# Altium footprint library DISCRETE_T1.PcbLib: 293 footprints (part 3 of 19)
Each footprint in its own frame and in the unit in brackets; x right, y up, seen from the top. Pads: shape width x height; smd on the part's side, far side on the other; paste and mask are expansions set on the pad; w line width, h text height; cw(c..) or ccw(c..) is an arc to the next point about the centre after c.
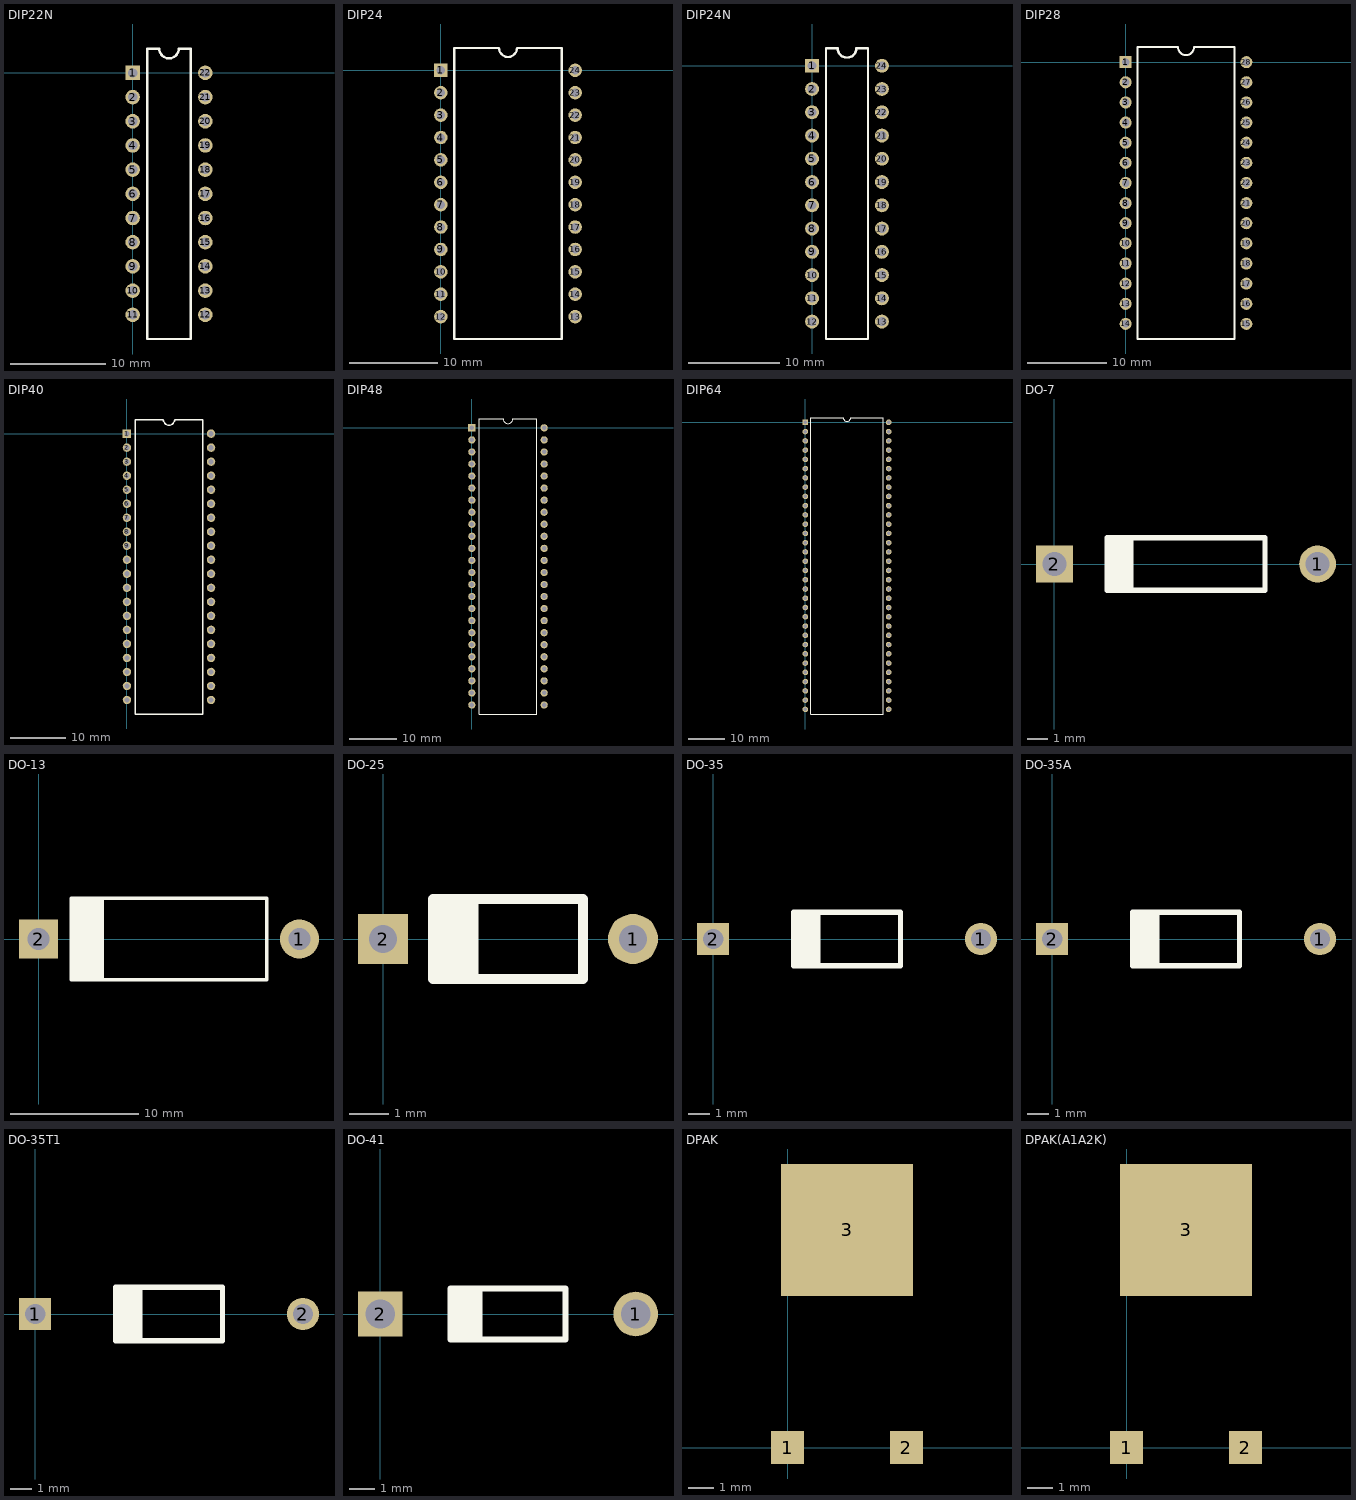
[diagram p2: the footprints below, top view; thin cyan lines are the x and y axes]

## DIP22N [mil]
pads (22):
  rect 60x60 hole 38: 1(0,0)
  round 60 hole 38: 2(0,-100) 3(0,-200) 4(0,-300) 5(0,-400) 6(0,-500) 7(0,-600) 8(0,-700) 9(0,-800) 10(0,-900) 11(0,-1000) 12(300,-1000) 13(300,-900) 14(300,-800) 15(300,-700) 16(300,-600) 17(300,-500) 18(300,-400) 19(300,-300) 20(300,-200) 21(300,-100) 22(300,0)
Top Overlay:
  lines w10: 60,-1100 60,100 110,100 ccw(c150,100) 190,100 240,100 240,-1100 60,-1100

## DIP24 [mil]
pads (24):
  rect 60x60 hole 38: 1(0,0)
  round 60 hole 38: 2(0,-100) 3(0,-200) 4(0,-300) 5(0,-400) 6(0,-500) 7(0,-600) 8(0,-700) 9(0,-800) 10(0,-900) 11(0,-1000) 12(0,-1100) 13(600,-1100) 14(600,-1000) 15(600,-900) 16(600,-800) 17(600,-700) 18(600,-600) 19(600,-500) 20(600,-400) 21(600,-300) 22(600,-200) 23(600,-100) 24(600,0)
Top Overlay:
  lines w10: 60,-1200 60,100 260,100 ccw(c300,100) 340,100 540,100 540,-1200 60,-1200

## DIP24N [mil]
pads (24):
  rect 60x60 hole 38: 1(0,0)
  round 60 hole 38: 2(0,-100) 3(0,-200) 4(0,-300) 5(0,-400) 6(0,-500) 7(0,-600) 8(0,-700) 9(0,-800) 10(0,-900) 11(0,-1000) 12(0,-1100) 13(300,-1100) 14(300,-1000) 15(300,-900) 16(300,-800) 17(300,-700) 18(300,-600) 19(300,-500) 20(300,-400) 21(300,-300) 22(300,-200) 23(300,-100) 24(300,0)
Top Overlay:
  lines w10: 60,-1175 60,75 110,75 ccw(c150,75) 190,75 240,75 240,-1175 60,-1175

## DIP28 [mil]
pads (28):
  rect 60x60 hole 38: 1(0,0)
  round 60 hole 38: 2(0,-100) 3(0,-200) 4(0,-300) 5(0,-400) 6(0,-500) 7(0,-600) 8(0,-700) 9(0,-800) 10(0,-900) 11(0,-1000) 12(0,-1100) 13(0,-1200) 14(0,-1300) 15(600,-1300) 16(600,-1200) 17(600,-1100) 18(600,-1000) 19(600,-900) 20(600,-800) 21(600,-700) 22(600,-600) 23(600,-500) 24(600,-400) 25(600,-300) 26(600,-200) 27(600,-100) 28(600,0)
Top Overlay:
  lines w10: 60,-1375 60,75 260,75 ccw(c300,75) 340,75 540,75 540,-1375 60,-1375

## DIP40 [mil]
pads (40):
  rect 60x60 hole 38: 1(0,0)
  round 60 hole 38: 2(0,-100) 3(0,-200) 4(0,-300) 5(0,-400) 6(0,-500) 7(0,-600) 8(0,-700) 9(0,-800) 10(0,-900) 11(0,-1000) 12(0,-1100) 13(0,-1200) 14(0,-1300) 15(0,-1400) 16(0,-1500) 17(0,-1600) 18(0,-1700) 19(0,-1800) 20(0,-1900) 21(600,-1900) 22(600,-1800) 23(600,-1700) 24(600,-1600) 25(600,-1500) 26(600,-1400) 27(600,-1300) 28(600,-1200) 29(600,-1100) 30(600,-1000) 31(600,-900) 32(600,-800) 33(600,-700) 34(600,-600) 35(600,-500) 36(600,-400) 37(600,-300) 38(600,-200) 39(600,-100) 40(600,0)
Top Overlay:
  lines w10: 60,-2000 60,100 260,100 ccw(c300,100) 340,100 540,100 540,-2000 60,-2000

## DIP48 [mil]
pads (48):
  rect 60x60 hole 38: 1(0,0)
  round 60 hole 38: 2(0,-100) 3(0,-200) 4(0,-300) 5(0,-400) 6(0,-500) 7(0,-600) 8(0,-700) 9(0,-800) 10(0,-900) 11(0,-1000) 12(0,-1100) 13(0,-1200) 14(0,-1300) 15(0,-1400) 16(0,-1500) 17(0,-1600) 18(0,-1700) 19(0,-1800) 20(0,-1900) 21(0,-2000) 22(0,-2100) 23(0,-2200) 24(0,-2300) 25(600,-2300) 26(600,-2200) 27(600,-2100) 28(600,-2000) 29(600,-1900) 30(600,-1800) 31(600,-1700) 32(600,-1600) 33(600,-1500) 34(600,-1400) 35(600,-1300) 36(600,-1200) 37(600,-1100) 38(600,-1000) 39(600,-900) 40(600,-800) 41(600,-700) 42(600,-600) 43(600,-500) 44(600,-400) 45(600,-300) 46(600,-200) 47(600,-100) 48(600,0)
Top Overlay:
  lines w10: 60,-2375 60,75 260,75 ccw(c300,75) 340,75 540,75 540,-2375 60,-2375

## DIP64 [mil]
pads (64):
  rect 60x60 hole 38: 1(0,0)
  round 60 hole 38: 2(0,-100) 3(0,-200) 4(0,-300) 5(0,-400) 6(0,-500) 7(0,-600) 8(0,-700) 9(0,-800) 10(0,-900) 11(0,-1000) 12(0,-1100) 13(0,-1200) 14(0,-1300) 15(0,-1400) 16(0,-1500) 17(0,-1600) 18(0,-1700) 19(0,-1800) 20(0,-1900) 21(0,-2000) 22(0,-2100) 23(0,-2200) 24(0,-2300) 25(0,-2400) 26(0,-2500) 27(0,-2600) 28(0,-2700) 29(0,-2800) 30(0,-2900) 31(0,-3000) 32(0,-3100) 33(900,-3100) 34(900,-3000) 35(900,-2900) 36(900,-2800) 37(900,-2700) 38(900,-2600) 39(900,-2500) 40(900,-2400) 41(900,-2300) 42(900,-2200) 43(900,-2100) 44(900,-2000) 45(900,-1900) 46(900,-1800) 47(900,-1700) 48(900,-1600) 49(900,-1500) 50(900,-1400) 51(900,-1300) 52(900,-1200) 53(900,-1100) 54(900,-1000) 55(900,-900) 56(900,-800) 57(900,-700) 58(900,-600) 59(900,-500) 60(900,-400) 61(900,-300) 62(900,-200) 63(900,-100) 64(900,0)
Top Overlay:
  lines w10: 830,-3150 60,-3150 ; 60,-3150 60,50 410,50 ccw(c450,50) 490,50 840,50 840,-3150 60,-3150

## DO-7 [mil]
pads (2):
  round 70 hole 46: 1(500,0)
  rect 70x70 hole 46: 2(0,0)
Top Overlay:
  region: 100,-50 150,-50 150,50 100,50
  lines w10: 100,-50 100,50 400,50 400,-50 100,-50

## DO-13 [mil]
pads (2):
  round 120 hole 68: 1(800,0)
  rect 120x120 hole 68: 2(0,0)
Top Overlay:
  region: 100,-125 200,-125 200,125 100,125
  region: 100,-125 175,-125
  lines w10: 100,-125 700,-125 700,125 100,125 100,-125

## DO-25 [mil]
pads (2):
  round 50 hole 28: 1(250,0)
  rect 50x50 hole 28: 2(0,0)
Top Overlay:
  region: 95,-40 95,40 50,40 50,-40
  lines w10: 50,-40 50,40 200,40 200,-40 50,-40

## DO-35 [mil]
pads (2):
  round 60 hole 38: 1(500,0)
  rect 60x60 hole 38: 2(0,0)
Top Overlay:
  region: 150,-50 175,-50
  region: 150,-50 200,-50 200,50 150,50
  lines w10: 150,-50 350,-50 350,50 150,50 150,-50

## DO-35A [mil]
pads (2):
  round 60 hole 38: 1(500,0)
  rect 60x60 hole 38: 2(0,0)
Top Overlay:
  region: 150,-50 200,-50 200,50 150,50
  region: 150,-50 175,-50
  lines w10: 150,-50 150,50 350,50 350,-50 150,-50

## DO-35T1 [mil]
pads (2):
  rect 60x60 hole 38: 1(0,0)
  round 60 hole 38: 2(500,0)
Top Overlay:
  region: 150,-50 175,-50
  region: 150,-50 200,-50 200,50 150,50
  lines w10: 150,-50 350,-50 350,50 150,50 150,-50

## DO-41 [mil]
pads (2):
  round 70 hole 46: 1(400,0)
  rect 70x70 hole 46: 2(0,0)
Top Overlay:
  region: 110,-40 160,-40
  region: 110,-40 160,-40 160,40 110,40
  lines w10: 110,-40 290,-40 290,40 110,40 110,-40

## DPAK [mil]
pads (3):
  rect 50x50 smd: 1(0,0) 2(180,0)
  rect 200x200 smd: 3(90,330)

## DPAK(A1A2K) [mil]
pads (3):
  rect 50x50 smd: 1(0,0) 2(180,0)
  rect 200x200 smd: 3(90,330)